# Altium schematic symbol library 6N13X.SchLib: 1 symbol
Pins are listed as number, name and electrical type; pins without a type are passive.

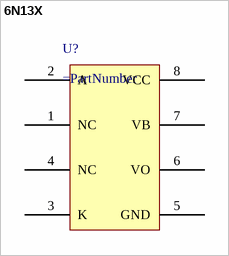
[diagram p0: symbol 6N13X]

## 6N13X
designator U?
pins: 1 NC, 2 A, 3 K, 4 NC, 5 GND, 6 VO, 7 VB, 8 VCC